# EAGLE library part TB6612FNG (library doogie)
TB6612FNG Dual Motor Driver Carrier This tiny board is an easy way to use Toshiba’s TB6612FNG dual motor driver, which can independently control two bidirectional DC motors or one bipolar stepper motor. A recommended motor voltage of 4.5 V to 13.5 V and peak current output of 3 A per channel (1 A continuous) make this a great motor driver for low-power motors.
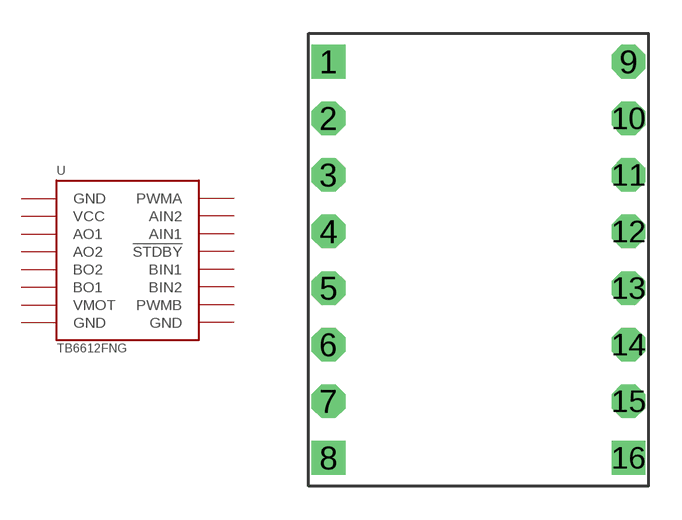
[diagram p0: symbol with the pads of TB6612FNG; footprint TB6612FNG]

Designator prefix U

## TB6612FNG  [TB6612FNG]
1  GND  pwr
2  VCC  pwr
3  AO1  out
4  AO2  out
5  BO2  out
6  BO1  out
7  VMOT  pwr
8  GND  pwr
9  PWMA  in
10  AIN2  in
11  AIN1  in
12  !STDBY!  in
13  BIN1  in
14  BIN2  in
15  PWMB  in
16  GND  pwr

## Footprint TB6612FNG (pad centres in mm)
drill 1 square: 1 -6.731,8.89; 8 -6.731,-8.89; 16 6.731,-8.89
drill 1 octagon: 2 -6.731,6.35; 3 -6.731,3.81; 4 -6.731,1.27; 5 -6.731,-1.27; 6 -6.731,-3.81; 7 -6.731,-6.35; 9 6.731,8.89; 10 6.731,6.35; 11 6.731,3.81; 12 6.731,1.27; 13 6.731,-1.27; 14 6.731,-3.81; 15 6.731,-6.35